# Altium footprint library UserPcbLib.PcbLib: 107 footprints (part 3 of 7)
Each footprint in its own frame and in the unit in brackets; x right, y up, seen from the top. Pads: shape width x height; smd on the part's side, far side on the other; paste and mask are expansions set on the pad; w line width, h text height; cw(c..) or ccw(c..) is an arc to the next point about the centre after c.
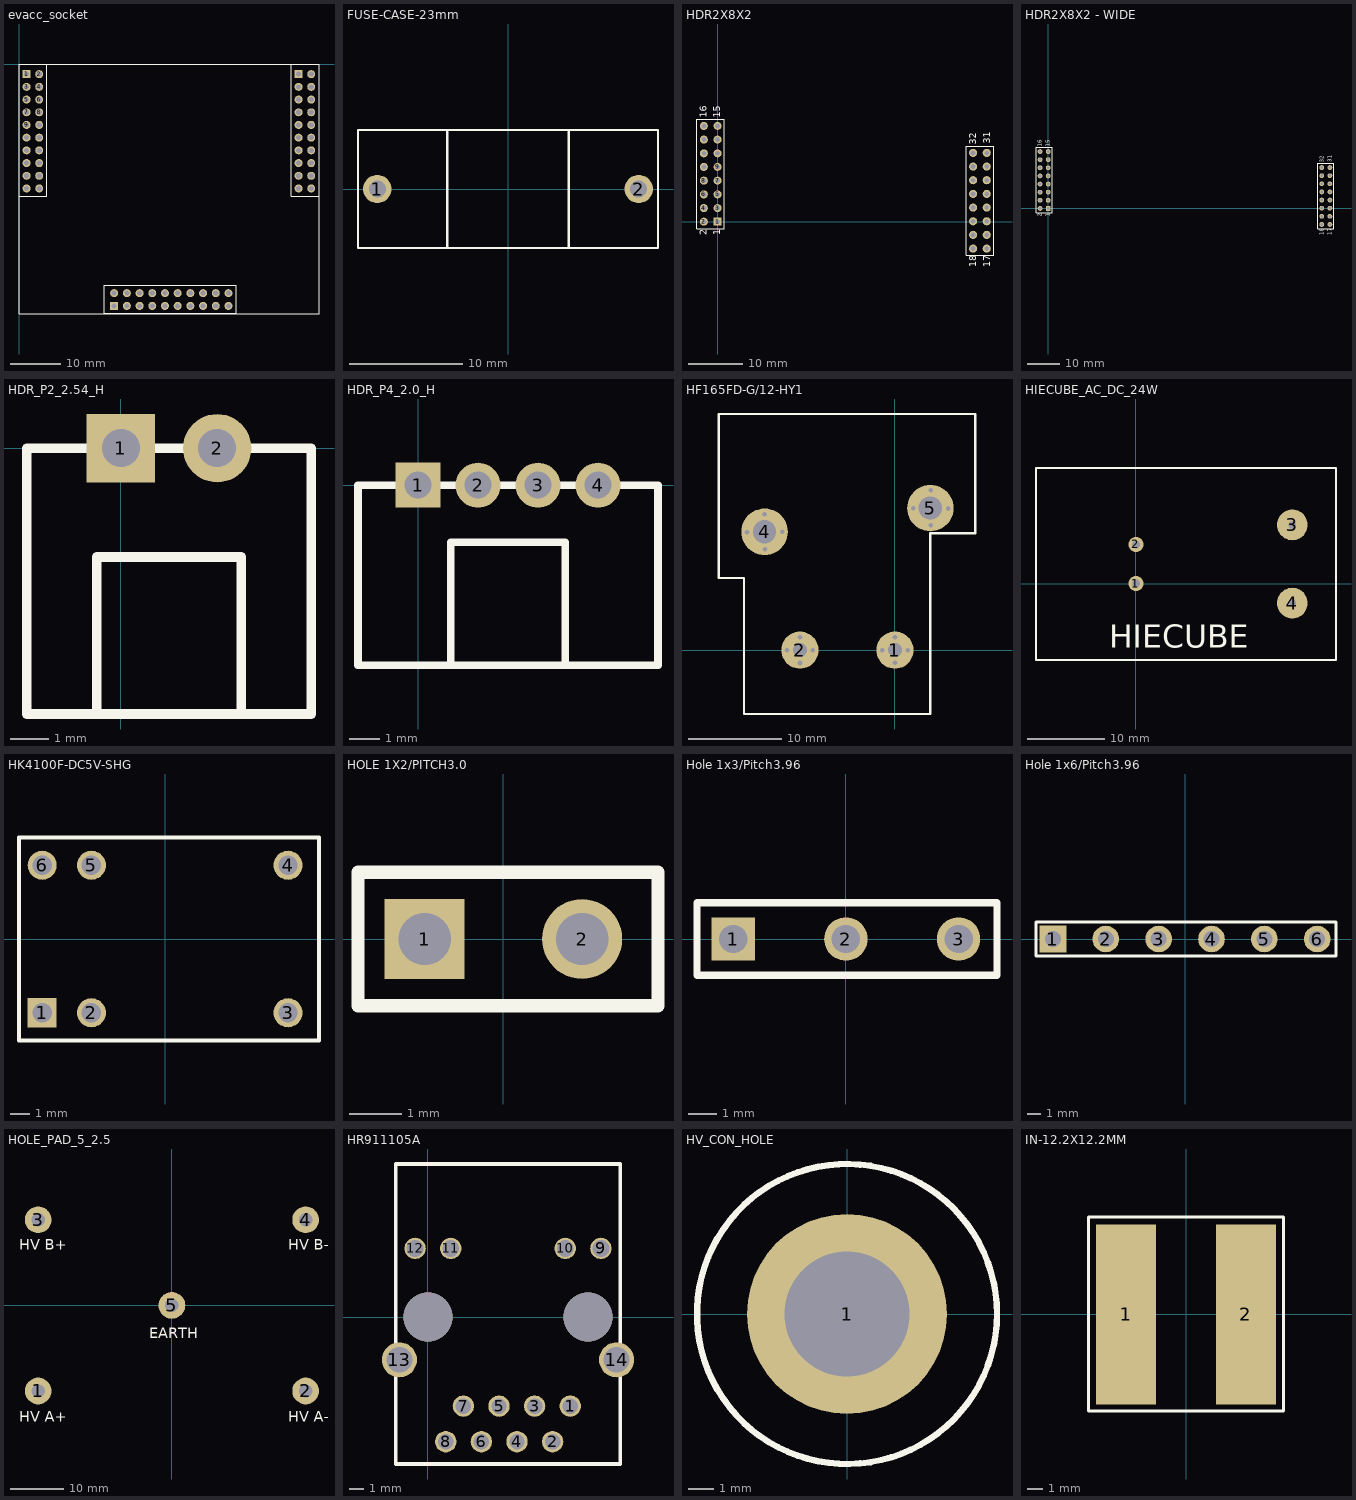
[diagram p2: the footprints below, top view; thin cyan lines are the x and y axes]

## evacc_socket [mm]
pads (60):
  rect 1.6x1.6 hole 1.02: 1(1.508,-2.032) 21(19.034,-48.378) 41(55.908,-2.032)
  round 1.6 hole 1.02: 2(4.048,-2.032) 3(1.508,-4.572) 4(4.048,-4.572) 5(1.508,-7.112) 6(4.048,-7.112) 7(1.508,-9.652) 8(4.048,-9.652) 9(1.508,-12.192) 10(4.048,-12.192) 11(1.508,-14.732) 12(4.048,-14.732) 13(1.508,-17.272) 14(4.048,-17.272) 15(1.508,-19.812) 16(4.048,-19.812) 17(1.508,-22.352) 18(4.048,-22.352) 19(1.508,-24.892) 20(4.048,-24.892) 22(19.034,-45.838) 23(21.574,-48.378) 24(21.574,-45.838) 25(24.114,-48.378) 26(24.114,-45.838) 27(26.654,-48.378) 28(26.654,-45.838) 29(29.194,-48.378) 30(29.194,-45.838) 31(31.734,-48.378) 32(31.734,-45.838) 33(34.274,-48.378) 34(34.274,-45.838) 35(36.814,-48.378) 36(36.814,-45.838) 37(39.354,-48.378) 38(39.354,-45.838) 39(41.894,-48.378) 40(41.894,-45.838) 42(58.448,-2.032) 43(55.908,-4.572) 44(58.448,-4.572) 45(55.908,-7.112) 46(58.448,-7.112) 47(55.908,-9.652) 48(58.448,-9.652) 49(55.908,-12.192) 50(58.448,-12.192) 51(55.908,-14.732) 52(58.448,-14.732) 53(55.908,-17.272) 54(58.448,-17.272) 55(55.908,-19.812) 56(58.448,-19.812) 57(55.908,-22.352) 58(58.448,-22.352) 59(55.908,-24.892) 60(58.448,-24.892)
Top Overlay:
  lines w0.2: 0,0 0,-26.403 5.6,-26.403 5.6,0 0,0 ; 0,0 60,0 ; 0,0 0,-50 60,-50 60,0 ; 60,0 54.4,0 54.4,-26.403 60,-26.403 60,0 ; 17.002,-49.886 17.002,-44.286 43.405,-44.286 43.405,-49.886 17.002,-49.886
3D body: height 8.5, standoff 0.1, extent 0.051,-26.416 5.639,0.102
3D body: height 8.5, standoff 0.1, extent 16.967,-49.962 43.459,-44.272
3D body: height 8.5, standoff 0.1, extent 54.356,-26.543 60.02,-0.025

## FUSE-CASE-23mm [mm]
pads (2):
  round 2.5 hole 1.5: 1(-11.5,0) 2(11.5,0)
Top Overlay:
  lines w0.2: -5.35,-5.2 -5.35,5.2 ; 5.35,-5.2 5.35,5.2 ; -13.2,-5.2 -13.2,5.2 13.2,5.2 13.2,-5.2 -13.2,-5.2

## HDR2X8X2 [mm]
pads (32):
  rect 1.5x1.5 hole 0.9: 1(0,0)
  round 1.5 hole 0.9: 2(-2.54,0) 3(0,2.54) 4(-2.54,2.54) 5(0,5.08) 6(-2.54,5.08) 7(0,7.62) 8(-2.54,7.62) 9(0,10.16) 10(-2.54,10.16) 11(0,12.7) 12(-2.54,12.7) 13(0,15.24) 14(-2.54,15.24) 15(0,17.78) 16(-2.54,17.78) 17(50,-5) 18(47.46,-5) 19(50,-2.46) 20(47.46,-2.46) 21(50,0.08) 22(47.46,0.08) 23(50,2.62) 24(47.46,2.62) 25(50,5.16) 26(47.46,5.16) 27(50,7.7) 28(47.46,7.7) 29(50,10.24) 30(47.46,10.24) 31(50,12.78) 32(47.46,12.78)
Top Overlay:
  lines w0.2: -3.81,-1.27 1.27,-1.27 1.27,19.05 -3.81,19.05 -3.81,-1.27 ; 46.19,-6.27 46.19,14.05 51.27,14.05 51.27,-6.27 46.19,-6.27
  text "32" at 48.095,14.304 h1.27
  text "31" at 50.635,14.431 h1.27
  text "17" at 50.635,-8.429 h1.27
  text "18" at 48.095,-8.429 h1.27
  text "2" at -2.032,-2.54 h1.27
  text "1" at 0.508,-2.54 h1.27
  text "15" at 0.508,19.304 h1.27
  text "16" at -2.032,19.304 h1.27

## HDR2X8X2 - WIDE [mm] "Header pair for high voltage pulse receiver module of energizer"
pads (32):
  rect 1.5x1.5 hole 0.9: 1(0,0)
  round 1.5 hole 0.9: 2(-2.54,0) 3(0,2.54) 4(-2.54,2.54) 5(0,5.08) 6(-2.54,5.08) 7(0,7.62) 8(-2.54,7.62) 9(0,10.16) 10(-2.54,10.16) 11(0,12.7) 12(-2.54,12.7) 13(0,15.24) 14(-2.54,15.24) 15(0,17.78) 16(-2.54,17.78) 17(87.998,-5) 18(85.458,-5) 19(87.998,-2.46) 20(85.458,-2.46) 21(87.998,0.08) 22(85.458,0.08) 23(87.998,2.62) 24(85.458,2.62) 25(87.998,5.16) 26(85.458,5.16) 27(87.998,7.7) 28(85.458,7.7) 29(87.998,10.24) 30(85.458,10.24) 31(87.998,12.78) 32(85.458,12.78)
Top Overlay:
  lines w0.2: -3.81,-1.27 -3.81,19.05 1.27,19.05 1.27,-1.27 -3.81,-1.27 ; 84.188,-6.27 89.268,-6.27 89.268,14.05 84.188,14.05 84.188,-6.27
  text "16" at -2.032,19.304 h1.27
  text "15" at 0.508,19.304 h1.27
  text "1" at 0.508,-2.54 h1.27
  text "2" at -2.032,-2.54 h1.27
  text "18" at 86.093,-8.429 h1.27
  text "17" at 88.633,-8.429 h1.27
  text "31" at 88.633,14.431 h1.27
  text "32" at 86.093,14.304 h1.27

## HDR_P2_2.54_H [mm] "Header 2-pin, pitch 2.54, hori"
height 6
pads (2):
  rect 1.8x1.8 hole 1: 1(0,0)
  round 1.8 hole 1: 2(2.54,0)
Top Overlay:
  lines w0.254: -0.635,-7 -0.635,-2.865 3.175,-2.865 3.175,-7 ; -2.48,-7 5.02,-7 5.02,0 -2.48,0 -2.48,-7

## HDR_P4_2.0_H [mm] "Header 2-pin, pitch 2.54, hori"
height 6
pads (4):
  rect 1.5x1.5 hole 0.9: 1(0,0)
  round 1.5 hole 0.9: 2(2,0) 3(4,0) 4(6,0)
Top Overlay:
  lines w0.254: 1.095,-6 1.095,-1.905 4.905,-1.905 4.905,-6 ; -2,-6 -2,0 8,0 8,-6 -2,-6

## HF165FD-G/12-HY1 [mm]
pads (4):
  round 4 hole 1.5: 1(0,0) 2(-10.2,0)
  round 5 hole 2.5: 4(-14,12.7) 5(3.8,15.24)
via 0,-1.375 diameter 0.8 hole 0.5
via 0,1.375 diameter 0.8 hole 0.5
via -10.2,-1.382 diameter 0.8 hole 0.5
via -10.2,1.361 diameter 0.8 hole 0.5
via -8.839,0 diameter 0.8 hole 0.5
via -13.949,10.825 diameter 0.8 hole 0.5
via -14,14.584 diameter 0.8 hole 0.5
via -12.116,12.7 diameter 0.8 hole 0.5
via -15.875,12.649 diameter 0.8 hole 0.5
via 3.825,13.396 diameter 0.8 hole 0.5
via 3.851,17.155 diameter 0.8 hole 0.5
via 5.715,15.189 diameter 0.8 hole 0.5
via 1.956,15.215 diameter 0.8 hole 0.5
via 1.375,0 diameter 0.8 hole 0.5
via -1.375,0 diameter 0.8 hole 0.5
via -11.582,0 diameter 0.8 hole 0.5
Top Overlay:
  lines w0.254: -18.9,7.74 -16.2,7.74 -16.2,-6.86 3.8,-6.86 3.8,12.54 8.6,12.54 8.6,25.34 -18.9,25.34 -18.9,7.74
3D body: height 20.4, standoff 0.1, extent -18.958,-6.916 8.778,25.469

## HIECUBE_AC_DC_24W [mm]
height 22
pads (4):
  round 2 hole 1: 1(0,0) 2(0,5.08)
  round 4 hole 1: 3(20.32,7.62) 4(20.32,-2.54)
Top Overlay:
  lines w0.254: -13,-9.96 26,-9.96 26,15.04 -13,15.04 -13,-9.96
  text "HIECUBE" at -3.454,-8.331 h3
3D body: height 22, standoff 0.1, extent -13.132,-10.109 25.984,15.189

## HK4100F-DC5V-SHG [mm] "HUI KE relay"
pads (6):
  rect 1.5x1.5 hole 1: 1(-6.35,-3.81)
  round 1.5 hole 1: 2(-3.81,-3.81) 3(6.35,-3.81) 4(6.35,3.81) 5(-3.81,3.81) 6(-6.35,3.81)
Top Overlay:
  lines w0.2: -7.55,-5.25 7.95,-5.25 7.95,5.25 -7.55,5.25 -7.55,-5.25
3D body: height 11.81, standoff -2.75, extent -7.577,-5.258 7.823,5.142

## HOLE 1X2/PITCH3.0 [mm] "1x2 hole array  ptich 3.0mm"
pads (2):
  rect 1.524x1.524 hole 1: 1(-1.5,0)
  round 1.524 hole 1: 2(1.5,0)
Top Overlay:
  lines w0.254: -2.77,-1.27 -2.77,1.27 2.945,1.27 2.945,-1.27 -2.77,-1.27

## Hole 1x3/Pitch3.96 [mil] "1x3 Hole array with pitch 3.96mm"
pads (3):
  rect 60x60 hole 39.37: 1(-155.91,0)
  round 60 hole 39.37: 2(0,0) 3(155.91,0)
Top Overlay:
  lines w10: -205.91,-50 -205.91,50 209.09,50 209.09,-50 -205.91,-50

## Hole 1x6/Pitch3.96 [mm] "1x6 hole array with pitch 3.96mm"
pads (6):
  rect 2x2 hole 1.2: 1(-9.9,0)
  round 2 hole 1.2: 2(-5.94,0) 3(-1.98,0) 4(1.98,0) 5(5.94,0) 6(9.9,0)
Top Overlay:
  lines w0.254: -11.17,-1.27 -11.17,1.27 11.309,1.27 11.309,-1.27 -11.17,-1.27

## HOLE_PAD_5_2.5 [mm] "High voltage output pads for energizer"
pads (5):
  round 5 hole 2.5: 1(-25,-16) 2(25,-16) 3(-25,16) 4(25,16) 5(0,0)
Top Overlay:
  text "HV A+" at -28.575,-21.717 h2
  text "HV A-" at 21.717,-21.717 h2
  text "HV B+" at -28.575,10.414 h2
  text "HV B-" at 21.717,10.414 h2
  text "EARTH" at -4.191,-6.096 h2

## HR911105A [mm] "RJ45 connector w/ magnetic & LEDs"
pads (14):
  round 1.524 hole 1.1: 1(10.155,-6.35) 2(8.895,-8.89) 3(7.615,-6.35) 4(6.355,-8.89) 5(5.075,-6.35) 6(3.815,-8.89) 7(2.535,-6.35) 8(1.275,-8.89)
  round 1.524 hole 1.2: 9(12.34,4.9) 10(9.8,4.9) 11(1.63,4.9) 12(-0.91,4.9)
  round 2.5 hole 1.83: 13(-2.03,-3.05) 14(13.46,-3.05)
via 11.43,0 diameter 3.5 hole 3.5
via 0,0 diameter 3.5 hole 3.5
Top Overlay:
  lines w0.254: -2.286,-10.48 13.714,-10.48 13.714,10.92 -2.286,10.92 -2.286,-10.48
3D body: height 13.5, standoff 0, extent -2.225,-10.48 13.655,10.92

## HV_CON_HOLE [mm] "Via hole of high voltage connnector"
pads (1):
  round 8 hole 5: 1(0,0)
Top Overlay:
  circle w0.254: c0,0 r6

## IN-12.2X12.2MM [mm]
pads (2):
  rect 4x12 smd: 1(-4,0) 2(4,0)
Top Overlay:
  lines w0.2: -6.5,-6.452 6.5,-6.452 6.5,6.502 -6.5,6.502 -6.5,-6.452